# EAGLE library part SN75DPHY440SS (library SN75DPHY440SS)
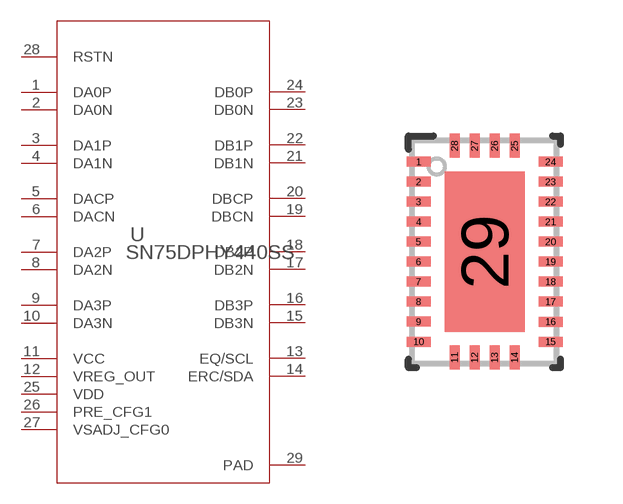
[diagram p0: symbol with the pads of RHR0028A_NV; footprint RHR0028A_NV]

Designator prefix U

## SN75DPHY440SS (ALTERNATEPARTNUMBER: SN65DPHY440SS; APPLICATION_BUILDNUMBER: *; COMPTYPE: IC; MANUFACTURER: Texas Instruments; MOUNTTYPE: SMT; PACKAGEREFERENCE: RHR0028A_NV; PARTNUMBER: SN75DPHY440SS; PIN_COUNT: 29; REFDES: RefDes; ROHS: Y; TYPE: TYPE; VALUE: Value)  [RHR0028A_NV]
1  DA0P
2  DA0N
3  DA1P
4  DA1N
5  DACP
6  DACN
7  DA2P
8  DA2N
9  DA3P
10  DA3N
11  VCC  pwr
12  VREG_OUT  pwr
13  EQ/SCL
14  ERC/SDA
15  DB3N
16  DB3P
17  DB2N
18  DB2P
19  DBCN
20  DBCP
21  DB1N
22  DB1P
23  DB0N
24  DB0P
25  VDD  pwr
26  PRE_CFG1
27  VSADJ_CFG0
28  RSTN
29  PAD  pwr

## Footprint RHR0028A_NV (pad centres in mm)
smd 0.6 x 0.25: 1 -1.65,2.25; 2 -1.65,1.75; 3 -1.65,1.25; 4 -1.65,0.75; 5 -1.65,0.25; 6 -1.65,-0.25; 7 -1.65,-0.75; 8 -1.65,-1.25; 9 -1.65,-1.75; 10 -1.65,-2.25; 15 1.65,-2.25; 16 1.65,-1.75; 17 1.65,-1.25; 18 1.65,-0.75; 19 1.65,-0.25; 20 1.65,0.25; 21 1.65,0.75; 22 1.65,1.25; 23 1.65,1.75; 24 1.65,2.25
smd 0.25 x 0.6: 11 -0.75,-2.65; 12 -0.25,-2.65; 13 0.25,-2.65; 14 0.75,-2.65; 25 0.75,2.65; 26 0.25,2.65; 27 -0.25,2.65; 28 -0.75,2.65
smd 2 x 4: 29 0,0